# EAGLE library part TX0104 (library Projekt)
TXB0104 or TXS0104 TXB0104 4-BIT BIDIRECTIONAL VOLTAGE-LEVEL TRANSLATOR WITH AUTOMATIC DIRECTION SENSING AND ±15-kV ESD PROTECTION FEATURES 1.2 V to 3.6 V on A Port and 1.65 V to 5.5 V on B Port (VCCA <= VCCB) VCC Isolation Feature - If Either VCC Input Is at GND, All Outputs Are in the High-Impedance State OE Input Circuit Referenced to VCCA Low Power Consumption, 5-uA Max ICC Ioff Supports Partial-Power-Down Mode Operation TXS0104 4-BIT BIDIRECTIONAL VOLTAGE-LEVEL TRANSLATOR FOR OPEN-DRAIN AND PUSH-PULL APPLICATIONS
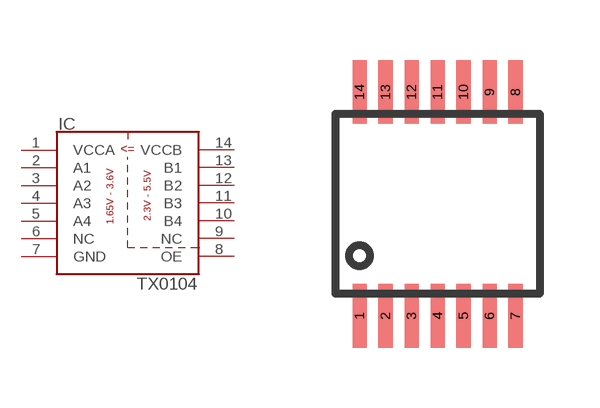
[diagram p24: symbol with the pads of TSSOP14; footprint TSSOP14]

Designator prefix IC

## TX0104PWR  [TSSOP14]
1  VCCA  pas
2  A1
3  A2
4  A3
5  A4
6  NC  nc
7  GND  pas
8  OE  in
9  NC  nc
10  B4
11  B3
12  B2
13  B1
14  VCCB  pas

## Footprint TSSOP14 (pad centres in mm)
TSSOP14 From http://focus.ti.com/lit/ds/symlink/txb0104.pdf
smd 0.35 x 1.6: 1 -1.95,-2.8; 2 -1.3,-2.8; 3 -0.65,-2.8; 4 0,-2.8; 5 0.65,-2.8; 6 1.3,-2.8; 7 1.95,-2.8; 8 1.95,2.8; 9 1.3,2.8; 10 0.65,2.8; 11 0,2.8; 12 -0.65,2.8; 13 -1.3,2.8; 14 -1.95,2.8